# Altium footprint library LCD液晶显示.PcbLib: 2 footprints
Each footprint in its own frame and in the unit in brackets; x right, y up, seen from the top. Pads: shape width x height; smd on the part's side, far side on the other; paste and mask are expansions set on the pad; w line width, h text height; cw(c..) or ccw(c..) is an arc to the next point about the centre after c.
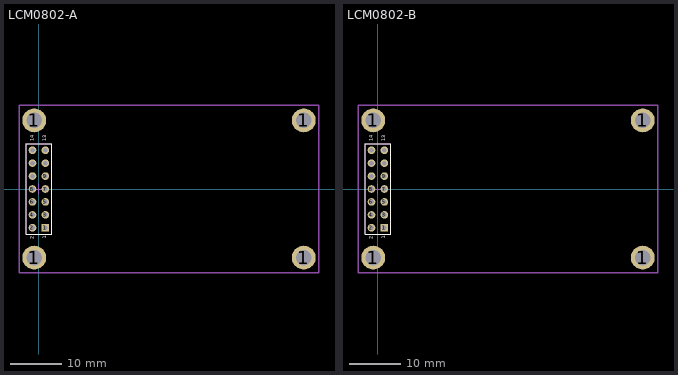
[diagram p0: the footprints below, top view; thin cyan lines are the x and y axes]

## LCM0802-A [mm]
height 9.1
pads (18):
  round 4.7 hole 3: 1(-0.92,-13.5) 1(-0.92,13.5) 1(52.08,-13.5) 1(52.08,13.5)
  rect 1.5x1.5 hole 0.9: 1(1.27,-7.62)
  round 1.5 hole 0.9: 2(-1.27,-7.62) 3(1.27,-5.08) 4(-1.27,-5.08) 5(1.27,-2.54) 6(-1.27,-2.54) 7(1.27,0) 8(-1.27,0) 9(1.27,2.54) 10(-1.27,2.54) 11(1.27,5.08) 12(-1.27,5.08) 13(1.27,7.62) 14(-1.27,7.62)
Top Overlay:
  lines w0.2: -2.54,-8.89 2.54,-8.89 2.54,8.89 -2.54,8.89 -2.54,-8.89
  text "2" at -0.762,-9.906 h1.27
  text "1" at 1.778,-9.804 h1.27
  text "14" at -0.762,9.398 h1.27
  text "13" at 1.778,9.398 h1.27
Mechanical 13:
  circle w0.254: c-0.92,-13.5 r1.5
  lines w0.05: -2.54,-8.89 2.54,-8.89 2.54,8.89 -2.54,8.89 -2.54,-8.89
  lines w0.254: -3.92,-16.5 55.08,-16.5 55.08,16.5 -3.92,16.5 -3.92,-16.5
Mechanical 15:
  lines w0.1: -1,0 1,0 ; 0,-1 0,1
3D body: height 20.7, standoff -6, extent -3.92,-16.5 55.08,16.5

## LCM0802-B [mm]
height 9.1
pads (18):
  round 4.7 hole 3: 1(-0.92,-13.5) 1(-0.92,13.5) 1(52.08,-13.5) 1(52.08,13.5)
  rect 1.5x1.5 hole 0.9: 1(1.27,-7.62)
  round 1.5 hole 0.9: 2(-1.27,-7.62) 3(1.27,-5.08) 4(-1.27,-5.08) 5(1.27,-2.54) 6(-1.27,-2.54) 7(1.27,0) 8(-1.27,0) 9(1.27,2.54) 10(-1.27,2.54) 11(1.27,5.08) 12(-1.27,5.08) 13(1.27,7.62) 14(-1.27,7.62)
Top Overlay:
  lines w0.2: -2.54,-8.89 2.54,-8.89 2.54,8.89 -2.54,8.89 -2.54,-8.89
  text "2" at -0.762,-9.906 h1.27
  text "1" at 1.778,-9.804 h1.27
  text "14" at -0.762,9.398 h1.27
  text "13" at 1.778,9.398 h1.27
Mechanical 13:
  circle w0.254: c-0.92,-13.5 r1.5
  lines w0.05: -2.54,-8.89 2.54,-8.89 2.54,8.89 -2.54,8.89 -2.54,-8.89
  lines w0.254: -3.92,-16.5 55.08,-16.5 55.08,16.5 -3.92,16.5 -3.92,-16.5
Mechanical 15:
  lines w0.1: -1,0 1,0 ; 0,-1 0,1
3D body: height 20.7, standoff -6, extent -3.92,-16.5 55.08,16.5